# Altium footprint library Synthiam-roundtrip.PcbLib: 483 footprints (part 6 of 31)
Each footprint in its own frame and in the unit in brackets; x right, y up, seen from the top. Pads: shape width x height; smd on the part's side, far side on the other; paste and mask are expansions set on the pad; w line width, h text height; cw(c..) or ccw(c..) is an arc to the next point about the centre after c.
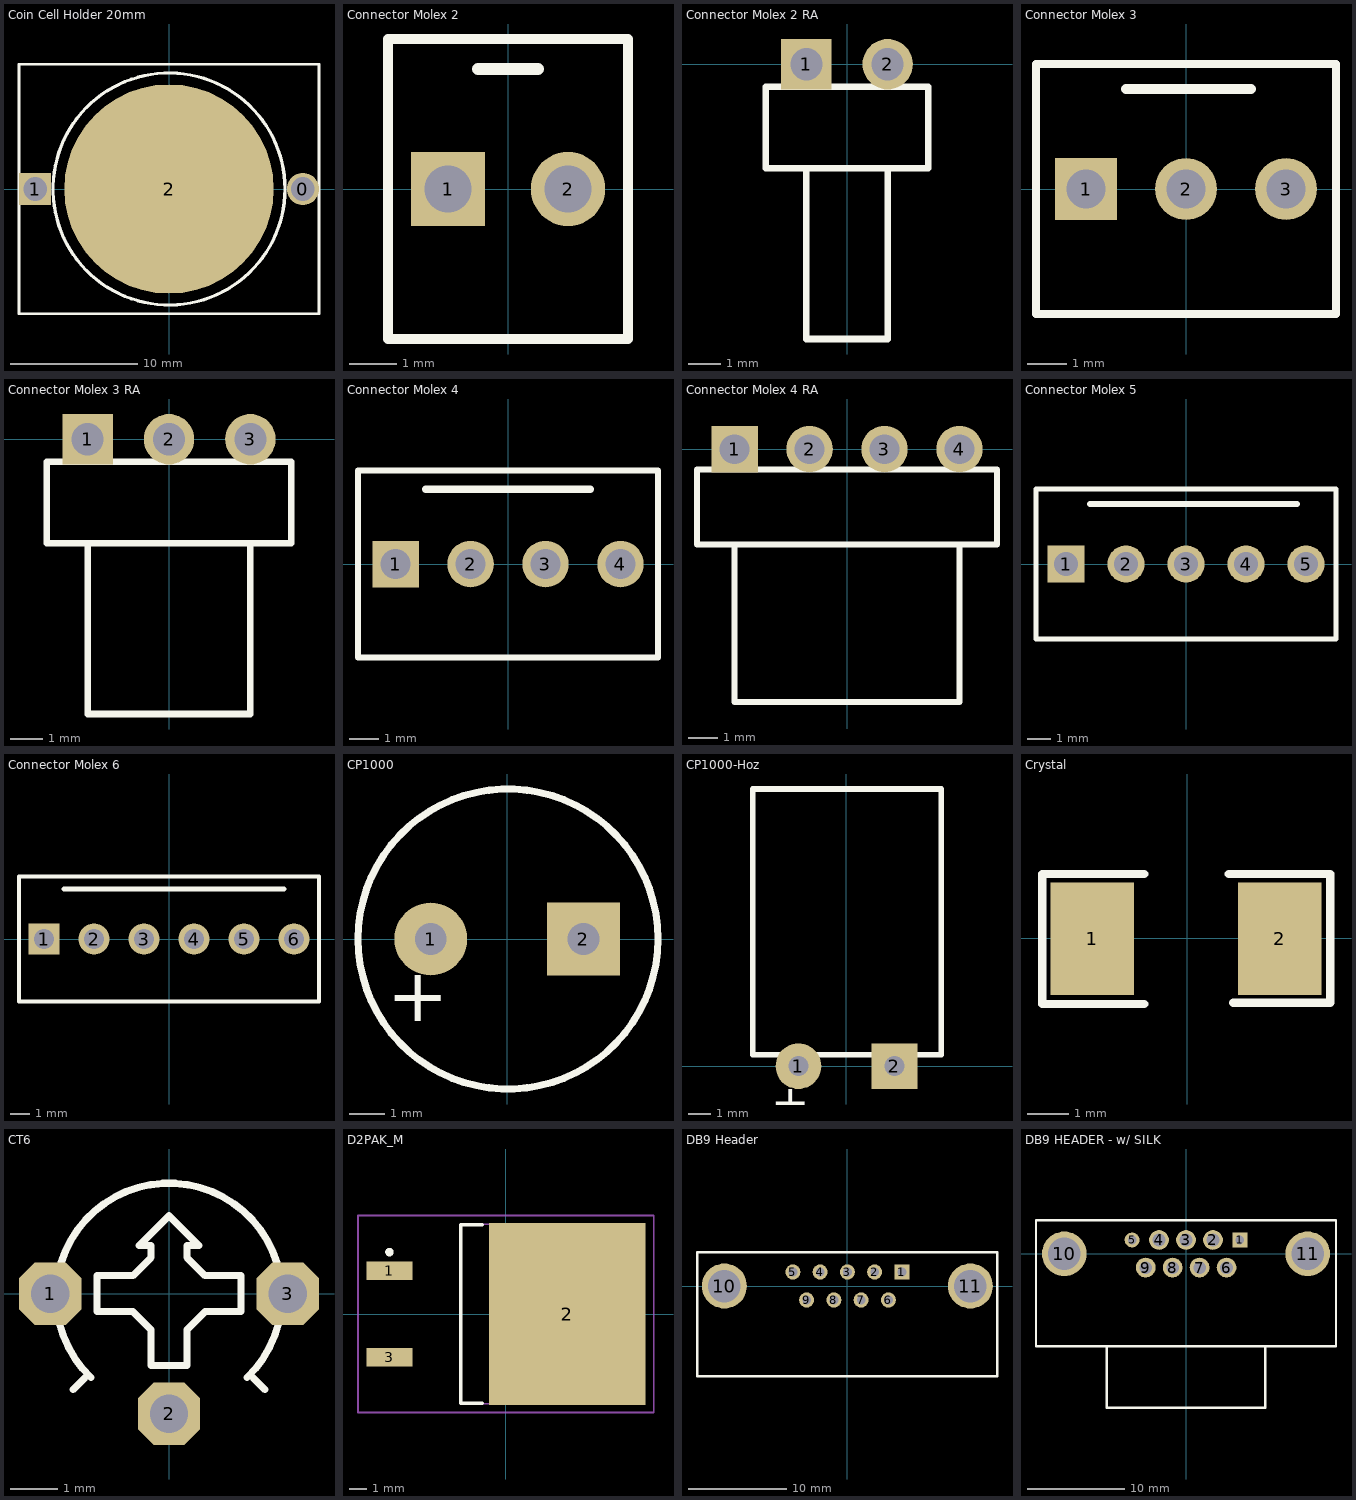
[diagram p5: the footprints below, top view; thin cyan lines are the x and y axes]

## Coin Cell Holder 20mm [mil]
pads (3):
  round 100 hole 73: 0(415.5,0)
  rect 100x100 hole 73: 1(-415.5,0)
  round 650 smd: 2(0,0)
Top Overlay:
  circle w10: c0,0 r360
  lines w8: -465.5,-387.5 -465.5,387.5 465.5,387.5 465.5,-387.5 -465.5,-387.5

## Connector Molex 2 [mil]
pads (2):
  rect 62x62 hole 39.4: 1(-50,0)
  round 62 hole 39.4: 2(50,0)
Top Overlay:
  lines w8: -100,-125 100,-125 100,125 -100,125 -100,-125
  lines w10: -25,100 25,100

## Connector Molex 2 RA [mil]
pads (2):
  rect 62x62 hole 39.4: 1(-50,0)
  round 62 hole 39.4: 2(50,0)
Top Overlay:
  lines w8: -50,-127.97 -50,-337.5 50,-337.5 50,-127.69 ; -100,-127.5 100,-127.5 100,-27.5 -100,-27.5 -100,-127.5

## Connector Molex 3 [mil]
pads (3):
  rect 62x62 hole 39.4: 1(-100,0)
  round 62 hole 39.4: 2(0,0) 3(100,0)
Top Overlay:
  lines w8: -150,-125 150,-125 150,125 -150,125 -150,-125
  lines w10: -60,100 65,100

## Connector Molex 3 RA [mil]
pads (3):
  rect 62x62 hole 39.4: 1(-100,0)
  round 62 hole 39.4: 2(0,0) 3(100,0)
Top Overlay:
  lines w8: -100,-127.97 -100,-337.5 100,-337.5 100,-127.69 ; -150,-127.5 150,-127.5 150,-27.5 -150,-27.5 -150,-127.5

## Connector Molex 4 [mil]
pads (4):
  rect 62x62 hole 39.4: 1(-150,0)
  round 62 hole 39.4: 2(-50,0) 3(50,0) 4(150,0)
Top Overlay:
  lines w8: -200,-125 -200,125 200,125 200,-125 -200,-125
  lines w10: -110,100 110,100

## Connector Molex 4 RA [mil]
pads (4):
  rect 62x62 hole 39.4: 1(-150,0)
  round 62 hole 39.4: 2(-50,0) 3(50,0) 4(150,0)
Top Overlay:
  lines w8: -150,-127.97 -150,-337.5 150,-337.5 150,-127.69 ; -200,-127.5 -200,-27.5 200,-27.5 200,-127.5 -200,-127.5

## Connector Molex 5 [mil]
pads (5):
  rect 62x62 hole 39.4: 1(-200,0)
  round 62 hole 39.4: 2(-100,0) 3(0,0) 4(100,0) 5(200,0)
Top Overlay:
  lines w8: -250,-125 250,-125 250,125 -250,125 -250,-125
  lines w10: -160,100 185,100

## Connector Molex 6 [mil]
pads (6):
  rect 62x62 hole 39.4: 1(-250,0)
  round 62 hole 39.4: 2(-150,0) 3(-50,0) 4(50,0) 5(150,0) 6(250,0)
Top Overlay:
  lines w8: -300,-125 300,-125 300,125 -300,125 -300,-125
  lines w10: -210,100 230,100

## CP1000 [mil]
pads (2):
  round 80 hole 35: 1(-84,0)
  rect 80x80 hole 35: 2(84,0)
Top Overlay:
  circle w7.87: c1,0 r165
  text "+" at -64,-40 h59.06
3D body: height 458, standoff 5, extent -155,-156 157.76,157.38

## CP1000-Hoz [mil]
pads (2):
  round 80 hole 35: 1(-84,0)
  rect 80x80 hole 35: 2(84,0)
Top Overlay:
  lines w10: -164,20 -164,485 166,485 166,20 -164,20
  text "+" at -64,-40 h59.06
3D body: height 314.65, standoff 0.31, extent -154,25 159.72,477.76

## Crystal [mm]
pads (2):
  rect 2x2.7 smd: 1(-2.276,-0.01) 2(2.22,-0.01)
Top Overlay:
  lines w0.203: -1.031,-1.575 -3.48,-1.575 -3.48,1.543 -1.031,1.543 ; 1.001,1.543 3.429,1.543 3.429,-1.549 1.102,-1.549

## CT6 [mil]
pads (3):
  oct 52x52 hole 32: 1(-99,0) 2(0,-100) 3(99,0)
Top Overlay:
  lines w6: -80,-80 -70,-70 ; -65,-70 cw(c0,-2) 65,-70 ; 70,-70 80,-80 ; -60,-15 -30,-15 -15,-30 -15,-60 15,-60 15,-30 30,-15 60,-15 60,15 30,15 15,30 15,40 25,40 0,65 -25,40 -15,40 -15,30 -30,15 -60,15 -60,-15

## D2PAK_M [mm]
pads (3):
  rect 2.7x1.1 smd: 1(-6.85,2.54) 3(-6.85,-2.54)
  rect 9.2x10.7 smd: 2(3.6,0)
Top Overlay:
  circle w0.25: c-6.85,3.64 r0.125
  lines w0.2: -1.4,-5.25 -2.65,-5.25 -2.65,5.25 -1.4,5.25
Mechanical 13:
  lines w0.1: -2.65,-5.275 -2.65,5.275 6.35,5.275 6.35,-5.275 -2.65,-5.275
Mechanical 15:
  lines w0.1: -0.5,0 0.5,0 ; 0,-0.5 0,0.5 ; -8.7,-5.8 -8.7,5.8 8.7,5.8 8.7,-5.8 -8.7,-5.8
3D body: height 4.69, standoff 0, extent -2.65,-5.275 6.35,5.275

## DB9 Header [mil]
pads (11):
  rect 60x60 hole 35: 1(218,56)
  round 60 hole 35: 2(109,56) 3(0,56) 4(-109,56) 5(-218,56) 6(164,-56) 7(55,-56) 8(-54,-56) 9(-163,-56)
  round 180 hole 130: 10(-492,0) 11(492,0)
Top Overlay:
  lines w10: -601.5,-360 598.5,-360 598.5,136 -601.5,136 -601.5,-360

## DB9 HEADER - w/ SILK [mil]
pads (11):
  rect 60x60 hole 35: 1(218,56)
  round 80 hole 51.18: 2(109,56) 3(0,56) 4(-109,56) 6(164,-56) 7(55,-56) 8(-54,-56) 9(-163,-56)
  round 60 hole 35: 5(-218,56)
  round 180 hole 130: 10(-492,0) 11(492,0)
Top Overlay:
  lines w10: -321,-375.9 -321,-623 321,-623 321,-376.3 ; -606.5,-374 -606.5,136 606.5,136 606.5,-374 -606.5,-374